# Altium footprint library Small Outline (~1.27mm Pitch) - 22+ Leads.PcbLib: 49 footprints (part 2 of 4)
Each footprint in its own frame and in the unit in brackets; x right, y up, seen from the top. Pads: shape width x height; smd on the part's side, far side on the other; paste and mask are expansions set on the pad; w line width, h text height; cw(c..) or ccw(c..) is an arc to the next point about the centre after c.
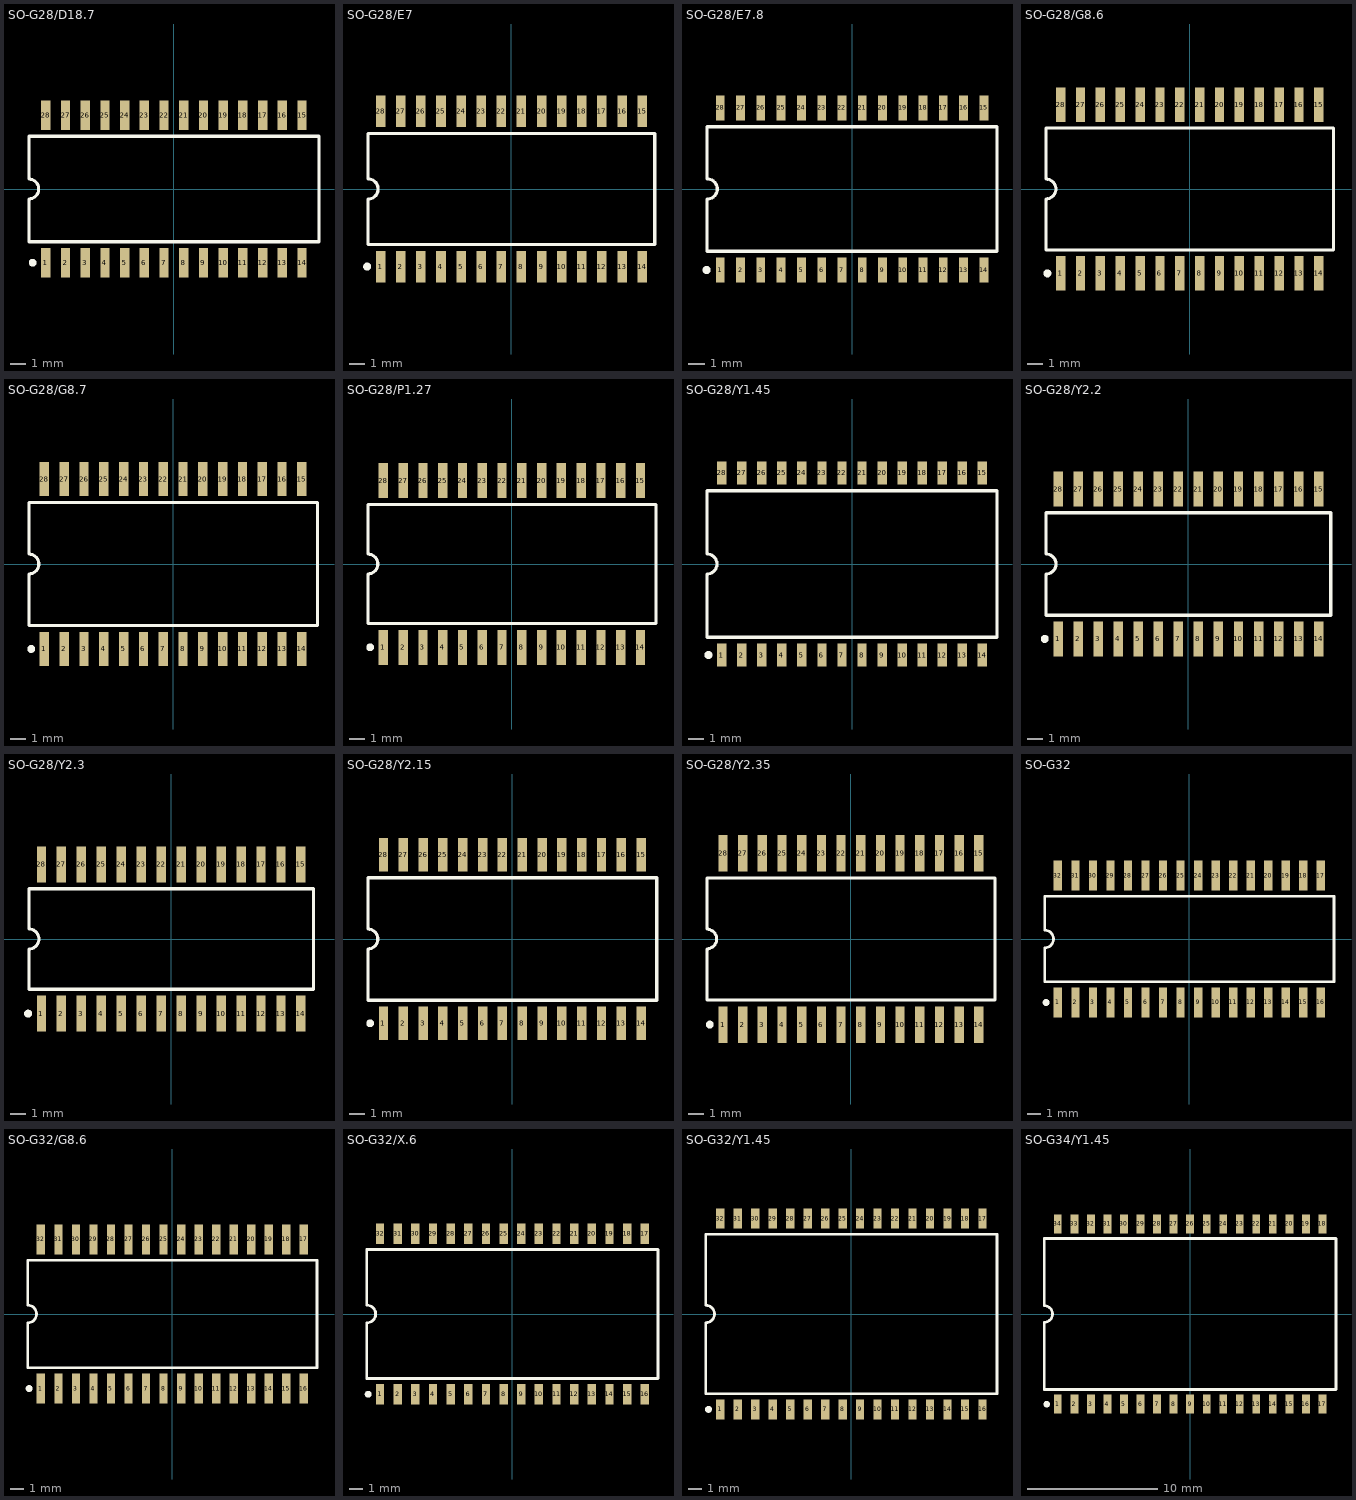
[diagram p1: the footprints below, top view; thin cyan lines are the x and y axes]

## SO-G28/D18.7 [mm] "Small Outline; 28 Leads; Body Width 7.5 mm; Pitch 1.27 mm"
height 2.67
pads (28):
  rect 0.6x1.9 smd: 1(-8.255,-4.75) 2(-6.985,-4.75) 3(-5.715,-4.75) 4(-4.445,-4.75) 5(-3.175,-4.75) 6(-1.905,-4.75) 7(-0.635,-4.75) 8(0.635,-4.75) 9(1.905,-4.75) 10(3.175,-4.75) 11(4.445,-4.75) 12(5.715,-4.75) 13(6.985,-4.75) 14(8.255,-4.75) 15(8.255,4.75) 16(6.985,4.75) 17(5.715,4.75) 18(4.445,4.75) 19(3.175,4.75) 20(1.905,4.75) 21(0.635,4.75) 22(-0.635,4.75) 23(-1.905,4.75) 24(-3.175,4.75) 25(-4.445,4.75) 26(-5.715,4.75) 27(-6.985,4.75) 28(-8.255,4.75)
Top Overlay:
  circle w0.25: c-9.105,-4.75 r0.125
  lines w0.2: -9.35,-3.4 -9.35,-0.635 ccw(c-9.35,0) -9.35,0.635 -9.35,3.4 9.35,3.4 9.35,-3.4 -9.35,-3.4

## SO-G28/E7 [mm] "Small Outline; 28 Leads; Body Width 7.5 mm; Pitch 1.27 mm"
height 2.65
pads (28):
  rect 0.6x2 smd: 1(-8.255,-4.9) 2(-6.985,-4.9) 3(-5.715,-4.9) 4(-4.445,-4.9) 5(-3.175,-4.9) 6(-1.905,-4.9) 7(-0.635,-4.9) 8(0.635,-4.9) 9(1.905,-4.9) 10(3.175,-4.9) 11(4.445,-4.9) 12(5.715,-4.9) 13(6.985,-4.9) 14(8.255,-4.9) 15(8.255,4.9) 16(6.985,4.9) 17(5.715,4.9) 18(4.445,4.9) 19(3.175,4.9) 20(1.905,4.9) 21(0.635,4.9) 22(-0.635,4.9) 23(-1.905,4.9) 24(-3.175,4.9) 25(-4.445,4.9) 26(-5.715,4.9) 27(-6.985,4.9) 28(-8.255,4.9)
Top Overlay:
  circle w0.25: c-9.105,-4.9 r0.125
  lines w0.2: -9.05,-3.5 -9.05,-0.635 ccw(c-9.05,0) -9.05,0.635 -9.05,3.5 9.05,3.5 9.05,-3.5 -9.05,-3.5

## SO-G28/E7.8 [mm] "Small Outline; 28 Leads; Body Width 7.5 mm; Pitch 1.27 mm"
height 2.64
pads (28):
  rect 0.55x1.55 smd: 1(-8.255,-5.075) 2(-6.985,-5.075) 3(-5.715,-5.075) 4(-4.445,-5.075) 5(-3.175,-5.075) 6(-1.905,-5.075) 7(-0.635,-5.075) 8(0.635,-5.075) 9(1.905,-5.075) 10(3.175,-5.075) 11(4.445,-5.075) 12(5.715,-5.075) 13(6.985,-5.075) 14(8.255,-5.075) 15(8.255,5.075) 16(6.985,5.075) 17(5.715,5.075) 18(4.445,5.075) 19(3.175,5.075) 20(1.905,5.075) 21(0.635,5.075) 22(-0.635,5.075) 23(-1.905,5.075) 24(-3.175,5.075) 25(-4.445,5.075) 26(-5.715,5.075) 27(-6.985,5.075) 28(-8.255,5.075)
Top Overlay:
  circle w0.25: c-9.105,-5.075 r0.125
  lines w0.2: -9.075,-3.9 -9.075,-0.635 ccw(c-9.075,0) -9.075,0.635 -9.075,3.9 9.075,3.9 9.075,-3.9 -9.075,-3.9

## SO-G28/G8.6 [mm] "Small Outline, Plastic; 28 Leads; Body Width 7.5 mm"
height 2.8
pads (28):
  rect 0.6x2.2 smd: 1(-8.255,-5.4) 2(-6.985,-5.4) 3(-5.715,-5.4) 4(-4.445,-5.4) 5(-3.175,-5.4) 6(-1.905,-5.4) 7(-0.635,-5.4) 8(0.635,-5.4) 9(1.905,-5.4) 10(3.175,-5.4) 11(4.445,-5.4) 12(5.715,-5.4) 13(6.985,-5.4) 14(8.255,-5.4) 15(8.255,5.4) 16(6.985,5.4) 17(5.715,5.4) 18(4.445,5.4) 19(3.175,5.4) 20(1.905,5.4) 21(0.635,5.4) 22(-0.635,5.4) 23(-1.905,5.4) 24(-3.175,5.4) 25(-4.445,5.4) 26(-5.715,5.4) 27(-6.985,5.4) 28(-8.255,5.4)
Top Overlay:
  circle w0.25: c-9.105,-5.4 r0.125
  lines w0.2: -9.2,-3.9 -9.2,-0.635 ccw(c-9.2,0) -9.2,0.635 -9.2,3.9 9.2,3.9 9.2,-3.9 -9.2,-3.9

## SO-G28/G8.7 [mm] "Small Outline, Plastic, Battery Snaphat; 28 Leads; Body Width 8.6 mm; Pitch 1.27 mm"
height 3.05
pads (28):
  rect 0.6x2.2 smd: 1(-8.255,-5.45) 2(-6.985,-5.45) 3(-5.715,-5.45) 4(-4.445,-5.45) 5(-3.175,-5.45) 6(-1.905,-5.45) 7(-0.635,-5.45) 8(0.635,-5.45) 9(1.905,-5.45) 10(3.175,-5.45) 11(4.445,-5.45) 12(5.715,-5.45) 13(6.985,-5.45) 14(8.255,-5.45) 15(8.255,5.45) 16(6.985,5.45) 17(5.715,5.45) 18(4.445,5.45) 19(3.175,5.45) 20(1.905,5.45) 21(0.635,5.45) 22(-0.635,5.45) 23(-1.905,5.45) 24(-3.175,5.45) 25(-4.445,5.45) 26(-5.715,5.45) 27(-6.985,5.45) 28(-8.255,5.45)
Top Overlay:
  circle w0.25: c-9.105,-5.45 r0.125
  lines w0.2: -9.25,-3.95 -9.25,-0.635 ccw(c-9.25,0) -9.25,0.635 -9.25,3.95 9.25,3.95 9.25,-3.95 -9.25,-3.95

## SO-G28/P1.27 [mm] "Small Outline; 28 Leads; Body Width 8.6 mm; Pitch 1.27 mm"
height 3.05
pads (28):
  rect 0.6x2.25 smd: 1(-8.255,-5.35) 2(-6.985,-5.35) 3(-5.715,-5.35) 4(-4.445,-5.35) 5(-3.175,-5.35) 6(-1.905,-5.35) 7(-0.635,-5.35) 8(0.635,-5.35) 9(1.905,-5.35) 10(3.175,-5.35) 11(4.445,-5.35) 12(5.715,-5.35) 13(6.985,-5.35) 14(8.255,-5.35) 15(8.255,5.35) 16(6.985,5.35) 17(5.715,5.35) 18(4.445,5.35) 19(3.175,5.35) 20(1.905,5.35) 21(0.635,5.35) 22(-0.635,5.35) 23(-1.905,5.35) 24(-3.175,5.35) 25(-4.445,5.35) 26(-5.715,5.35) 27(-6.985,5.35) 28(-8.255,5.35)
Top Overlay:
  circle w0.25: c-9.105,-5.35 r0.125
  lines w0.2: -9.25,-3.825 9.25,-3.825 9.25,3.825 -9.25,3.825 -9.25,0.635 cw(c-9.25,0) -9.25,-0.635 -9.25,-3.825

## SO-G28/Y1.45 [mm] "Small Outline; 28 Leads; Body Width 10.16 mm; Pitch 1.27 mm"
height 1.2
pads (28):
  rect 0.6x1.45 smd: 1(-8.255,-5.775) 2(-6.985,-5.775) 3(-5.715,-5.775) 4(-4.445,-5.775) 5(-3.175,-5.775) 6(-1.905,-5.775) 7(-0.635,-5.775) 8(0.635,-5.775) 9(1.905,-5.775) 10(3.175,-5.775) 11(4.445,-5.775) 12(5.715,-5.775) 13(6.985,-5.775) 14(8.255,-5.775) 15(8.255,5.775) 16(6.985,5.775) 17(5.715,5.775) 18(4.445,5.775) 19(3.175,5.775) 20(1.905,5.775) 21(0.635,5.775) 22(-0.635,5.775) 23(-1.905,5.775) 24(-3.175,5.775) 25(-4.445,5.775) 26(-5.715,5.775) 27(-6.985,5.775) 28(-8.255,5.775)
Top Overlay:
  circle w0.25: c-9.105,-5.775 r0.125
  lines w0.2: -9.2,-4.65 9.2,-4.65 9.2,4.65 -9.2,4.65 -9.2,0.635 cw(c-9.2,0) -9.2,-0.635 -9.2,-4.65

## SO-G28/Y2.2 [mm] "Small Outline; 28 Leads; Body Width 7.5 mm; Pitch 1.27 mm"
height 2.39
pads (28):
  rect 0.6x2.2 smd: 1(-8.255,-4.75) 2(-6.985,-4.75) 3(-5.715,-4.75) 4(-4.445,-4.75) 5(-3.175,-4.75) 6(-1.905,-4.75) 7(-0.635,-4.75) 8(0.635,-4.75) 9(1.905,-4.75) 10(3.175,-4.75) 11(4.445,-4.75) 12(5.715,-4.75) 13(6.985,-4.75) 14(8.255,-4.75) 15(8.255,4.75) 16(6.985,4.75) 17(5.715,4.75) 18(4.445,4.75) 19(3.175,4.75) 20(1.905,4.75) 21(0.635,4.75) 22(-0.635,4.75) 23(-1.905,4.75) 24(-3.175,4.75) 25(-4.445,4.75) 26(-5.715,4.75) 27(-6.985,4.75) 28(-8.255,4.75)
Top Overlay:
  circle w0.25: c-9.105,-4.75 r0.125
  lines w0.2: -9.025,-3.25 -9.025,-0.635 ccw(c-9.025,0) -9.025,0.635 -9.025,3.25 9.025,3.25 9.025,-3.25 -9.025,-3.25

## SO-G28/Y2.3 [mm] "Small Outline; 28 Leads; Body Width 7.5 mm; Pitch 1.27 mm"
height 2.64
pads (28):
  rect 0.6x2.3 smd: 1(-8.255,-4.75) 2(-6.985,-4.75) 3(-5.715,-4.75) 4(-4.445,-4.75) 5(-3.175,-4.75) 6(-1.905,-4.75) 7(-0.635,-4.75) 8(0.635,-4.75) 9(1.905,-4.75) 10(3.175,-4.75) 11(4.445,-4.75) 12(5.715,-4.75) 13(6.985,-4.75) 14(8.255,-4.75) 15(8.255,4.75) 16(6.985,4.75) 17(5.715,4.75) 18(4.445,4.75) 19(3.175,4.75) 20(1.905,4.75) 21(0.635,4.75) 22(-0.635,4.75) 23(-1.905,4.75) 24(-3.175,4.75) 25(-4.445,4.75) 26(-5.715,4.75) 27(-6.985,4.75) 28(-8.255,4.75)
Top Overlay:
  circle w0.25: c-9.105,-4.75 r0.125
  lines w0.2: -9.05,-3.2 -9.05,-0.635 ccw(c-9.05,0) -9.05,0.635 -9.05,3.2 9.05,3.2 9.05,-3.2 -9.05,-3.2

## SO-G28/Y2.15 [mm] "Small Outline; 28 Leads; Body Width 8.7 mm; Pitch 1.27 mm"
height 3.15
pads (28):
  rect 0.6x2.15 smd: 1(-8.255,-5.4) 2(-6.985,-5.4) 3(-5.715,-5.4) 4(-4.445,-5.4) 5(-3.175,-5.4) 6(-1.905,-5.4) 7(-0.635,-5.4) 8(0.635,-5.4) 9(1.905,-5.4) 10(3.175,-5.4) 11(4.445,-5.4) 12(5.715,-5.4) 13(6.985,-5.4) 14(8.255,-5.4) 15(8.255,5.4) 16(6.985,5.4) 17(5.715,5.4) 18(4.445,5.4) 19(3.175,5.4) 20(1.905,5.4) 21(0.635,5.4) 22(-0.635,5.4) 23(-1.905,5.4) 24(-3.175,5.4) 25(-4.445,5.4) 26(-5.715,5.4) 27(-6.985,5.4) 28(-8.255,5.4)
Top Overlay:
  circle w0.25: c-9.105,-5.4 r0.125
  lines w0.2: -9.25,-3.925 9.25,-3.925 9.25,3.925 -9.25,3.925 -9.25,0.635 cw(c-9.25,0) -9.25,-0.635 -9.25,-3.925

## SO-G28/Y2.35 [mm] "Small Outline; 28 Leads; Body Width 8.4 mm; Pitch 1.27 mm"
height 3
pads (28):
  rect 0.6x2.35 smd: 1(-8.255,-5.525) 2(-6.985,-5.525) 3(-5.715,-5.525) 4(-4.445,-5.525) 5(-3.175,-5.525) 6(-1.905,-5.525) 7(-0.635,-5.525) 8(0.635,-5.525) 9(1.905,-5.525) 10(3.175,-5.525) 11(4.445,-5.525) 12(5.715,-5.525) 13(6.985,-5.525) 14(8.255,-5.525) 15(8.255,5.525) 16(6.985,5.525) 17(5.715,5.525) 18(4.445,5.525) 19(3.175,5.525) 20(1.905,5.525) 21(0.635,5.525) 22(-0.635,5.525) 23(-1.905,5.525) 24(-3.175,5.525) 25(-4.445,5.525) 26(-5.715,5.525) 27(-6.985,5.525) 28(-8.255,5.525)
Top Overlay:
  circle w0.25: c-9.105,-5.525 r0.125
  lines w0.2: -9.3,-3.95 9.3,-3.95 9.3,3.95 -9.3,3.95 -9.3,0.635 cw(c-9.3,0) -9.3,-0.635 -9.3,-3.95

## SO-G32 [mm] "Small Outline; 32 Leads; Body Width 7.5 mm; Pitch 1.27 mm"
height 2.64
pads (32):
  rect 0.6x2.2 smd: 1(-9.525,-4.6) 2(-8.255,-4.6) 3(-6.985,-4.6) 4(-5.715,-4.6) 5(-4.445,-4.6) 6(-3.175,-4.6) 7(-1.905,-4.6) 8(-0.635,-4.6) 9(0.635,-4.6) 10(1.905,-4.6) 11(3.175,-4.6) 12(4.445,-4.6) 13(5.715,-4.6) 14(6.985,-4.6) 15(8.255,-4.6) 16(9.525,-4.6) 17(9.525,4.6) 18(8.255,4.6) 19(6.985,4.6) 20(5.715,4.6) 21(4.445,4.6) 22(3.175,4.6) 23(1.905,4.6) 24(0.635,4.6) 25(-0.635,4.6) 26(-1.905,4.6) 27(-3.175,4.6) 28(-4.445,4.6) 29(-5.715,4.6) 30(-6.985,4.6) 31(-8.255,4.6) 32(-9.525,4.6)
Top Overlay:
  circle w0.25: c-10.375,-4.6 r0.125
  lines w0.2: -10.475,-3.1 10.475,-3.1 10.475,3.1 -10.475,3.1 -10.475,0.635 cw(c-10.475,0) -10.475,-0.635 -10.475,-3.1

## SO-G32/G8.6 [mm] "Small Outline; 32 Leads; Body Width 8.9 mm; Pitch 1.27 mm"
height 2.64
pads (32):
  rect 0.6x2.2 smd: 1(-9.525,-5.4) 2(-8.255,-5.4) 3(-6.985,-5.4) 4(-5.715,-5.4) 5(-4.445,-5.4) 6(-3.175,-5.4) 7(-1.905,-5.4) 8(-0.635,-5.4) 9(0.635,-5.4) 10(1.905,-5.4) 11(3.175,-5.4) 12(4.445,-5.4) 13(5.715,-5.4) 14(6.985,-5.4) 15(8.255,-5.4) 16(9.525,-5.4) 17(9.525,5.4) 18(8.255,5.4) 19(6.985,5.4) 20(5.715,5.4) 21(4.445,5.4) 22(3.175,5.4) 23(1.905,5.4) 24(0.635,5.4) 25(-0.635,5.4) 26(-1.905,5.4) 27(-3.175,5.4) 28(-4.445,5.4) 29(-5.715,5.4) 30(-6.985,5.4) 31(-8.255,5.4) 32(-9.525,5.4)
Top Overlay:
  circle w0.25: c-10.375,-5.4 r0.125
  lines w0.2: -10.475,-3.9 -10.475,-0.635 ccw(c-10.475,0) -10.475,0.635 -10.475,3.9 10.475,3.9 10.475,-3.9 -10.475,-3.9

## SO-G32/X.6 [mm] "Small Outline; 32 Leads; Body Width 10.16 mm; Pitch 1.27 mm"
height 1.2
pads (32):
  rect 0.6x1.45 smd: 1(-9.525,-5.775) 2(-8.255,-5.775) 3(-6.985,-5.775) 4(-5.715,-5.775) 5(-4.445,-5.775) 6(-3.175,-5.775) 7(-1.905,-5.775) 8(-0.635,-5.775) 9(0.635,-5.775) 10(1.905,-5.775) 11(3.175,-5.775) 12(4.445,-5.775) 13(5.715,-5.775) 14(6.985,-5.775) 15(8.255,-5.775) 16(9.525,-5.775) 17(9.525,5.775) 18(8.255,5.775) 19(6.985,5.775) 20(5.715,5.775) 21(4.445,5.775) 22(3.175,5.775) 23(1.905,5.775) 24(0.635,5.775) 25(-0.635,5.775) 26(-1.905,5.775) 27(-3.175,5.775) 28(-4.445,5.775) 29(-5.715,5.775) 30(-6.985,5.775) 31(-8.255,5.775) 32(-9.525,5.775)
Top Overlay:
  circle w0.25: c-10.375,-5.775 r0.125
  lines w0.2: -10.475,-4.65 -10.475,-0.635 ccw(c-10.475,0) -10.475,0.635 -10.475,4.65 10.475,4.65 10.475,-4.65 -10.475,-4.65

## SO-G32/Y1.45 [mm] "Small Outline; 32 Leads; Body Width 12.7 mm; Pitch 1.27 mm"
height 1.2
pads (32):
  rect 0.6x1.45 smd: 1(-9.525,-6.925) 2(-8.255,-6.925) 3(-6.985,-6.925) 4(-5.715,-6.925) 5(-4.445,-6.925) 6(-3.175,-6.925) 7(-1.905,-6.925) 8(-0.635,-6.925) 9(0.635,-6.925) 10(1.905,-6.925) 11(3.175,-6.925) 12(4.445,-6.925) 13(5.715,-6.925) 14(6.985,-6.925) 15(8.255,-6.925) 16(9.525,-6.925) 17(9.525,6.925) 18(8.255,6.925) 19(6.985,6.925) 20(5.715,6.925) 21(4.445,6.925) 22(3.175,6.925) 23(1.905,6.925) 24(0.635,6.925) 25(-0.635,6.925) 26(-1.905,6.925) 27(-3.175,6.925) 28(-4.445,6.925) 29(-5.715,6.925) 30(-6.985,6.925) 31(-8.255,6.925) 32(-9.525,6.925)
Top Overlay:
  circle w0.25: c-10.375,-6.925 r0.125
  lines w0.2: -10.575,-5.8 -10.575,-0.635 ccw(c-10.575,0) -10.575,0.635 -10.575,5.8 10.575,5.8 10.575,-5.8 -10.575,-5.8

## SO-G34/Y1.45 [mm] "Small Outline; 34 Leads; Body Width 12.7 mm; Pitch 1.27 mm"
height 1.2
pads (34):
  rect 0.6x1.45 smd: 1(-10.16,-6.925) 2(-8.89,-6.925) 3(-7.62,-6.925) 4(-6.35,-6.925) 5(-5.08,-6.925) 6(-3.81,-6.925) 7(-2.54,-6.925) 8(-1.27,-6.925) 9(0,-6.925) 10(1.27,-6.925) 11(2.54,-6.925) 12(3.81,-6.925) 13(5.08,-6.925) 14(6.35,-6.925) 15(7.62,-6.925) 16(8.89,-6.925) 17(10.16,-6.925) 18(10.16,6.925) 19(8.89,6.925) 20(7.62,6.925) 21(6.35,6.925) 22(5.08,6.925) 23(3.81,6.925) 24(2.54,6.925) 25(1.27,6.925) 26(0,6.925) 27(-1.27,6.925) 28(-2.54,6.925) 29(-3.81,6.925) 30(-5.08,6.925) 31(-6.35,6.925) 32(-7.62,6.925) 33(-8.89,6.925) 34(-10.16,6.925)
Top Overlay:
  circle w0.25: c-11.01,-6.925 r0.125
  lines w0.2: -11.2,-5.8 -11.2,-0.635 ccw(c-11.2,0) -11.2,0.635 -11.2,5.8 11.2,5.8 11.2,-5.8 -11.2,-5.8